# EAGLE library part CCS811 (library Sensors > Environmental Sensors > Air Quality Sensors)
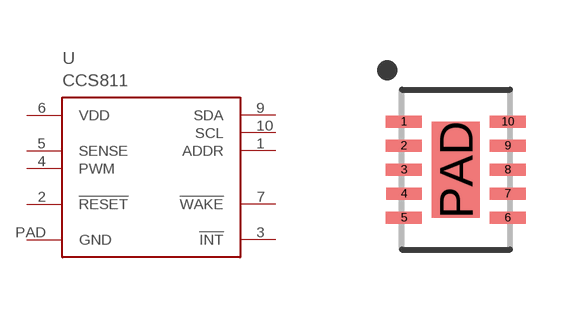
[diagram p0: symbol with the pads of LGA10; footprint LGA10]

Designator prefix U

## CCS811  [LGA10]
1  ADDR  in
2  !RESET  in
3  !INT  out
4  PWM
5  SENSE
6  VDD  pwr
7  !WAKE  in
9  SDA
10  SCL  in
PAD  GND  pwr

## Footprint LGA10 (pad centres in mm)
smd 0.9 x 0.3: 1 -1.3,1.2; 2 -1.3,0.6; 3 -1.3,0; 5 -1.3,-1.2; 6 1.3,-1.2; 7 1.3,-0.6; 8 1.3,0; 9 1.3,0.6; 10 1.3,1.2
smd 0.89 x 0.3: 4 -1.3,-0.6
smd 1.2 x 2.4: PAD 0,0